# Altium footprint library AMS1117-3.3.PcbLib: 1 footprints
Each footprint in its own frame and in the unit in brackets; x right, y up, seen from the top. Pads: shape width x height; smd on the part's side, far side on the other; paste and mask are expansions set on the pad; w line width, h text height; cw(c..) or ccw(c..) is an arc to the next point about the centre after c.
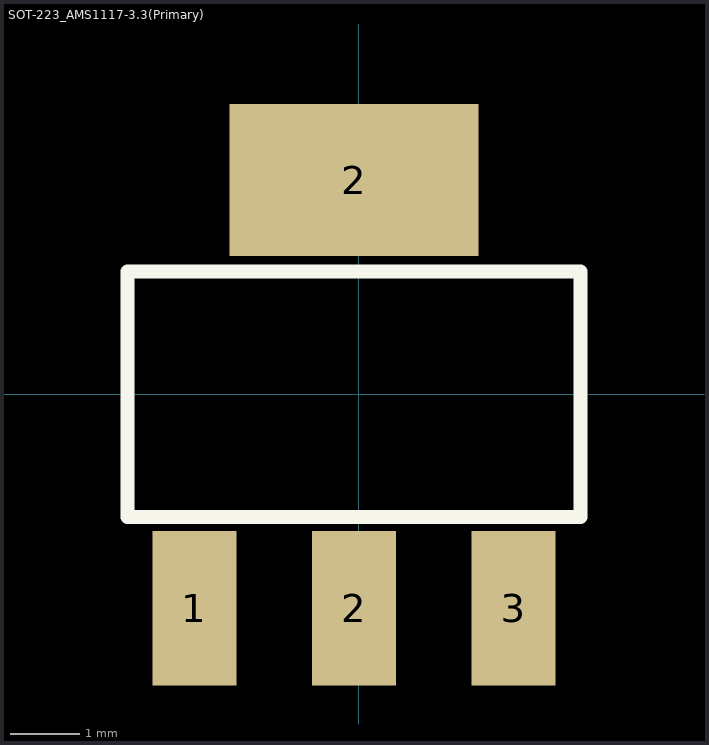
[diagram p0: the footprint, top view; thin cyan lines are the x and y axes]

## SOT-223_AMS1117-3.3(Primary) [mm]
pads (4):
  rect 1.219x2.235 smd paste-25.4 mask-25.4: 1(-2.381,-3.099) 2(-0.07,-3.099) 3(2.241,-3.099)
  rect 3.6x2.2 smd paste-25.4 mask-25.4: 2(-0.07,3.099)
Top Overlay:
  lines w0.203: -3.347,-1.778 -3.347,1.778 3.207,1.778 3.207,-1.778 -3.347,-1.778
Top Paste:
  region: -1.87,1.999 1.73,1.999 1.73,4.199 -1.87,4.199
  region: 1.632,-4.216 2.85,-4.216 2.85,-1.982 1.632,-1.982
  region: -0.679,-4.216 0.539,-4.216 0.539,-1.982 -0.679,-1.982
  region: -2.99,-4.216 -1.772,-4.216 -1.772,-1.982 -2.99,-1.982
Top Solder:
  region: -1.97,1.899 1.83,1.899 1.83,4.299 -1.97,4.299
  region: 1.532,-4.316 2.95,-4.316 2.95,-1.882 1.532,-1.882
  region: -0.779,-4.316 0.639,-4.316 0.639,-1.882 -0.779,-1.882
  region: -3.09,-4.316 -1.672,-4.316 -1.672,-1.882 -3.09,-1.882